# Altium footprint library aiskylab-05Transistors.PcbLib: 5 footprints
Each footprint in its own frame and in the unit in brackets; x right, y up, seen from the top. Pads: shape width x height; smd on the part's side, far side on the other; paste and mask are expansions set on the pad; w line width, h text height; cw(c..) or ccw(c..) is an arc to the next point about the centre after c.
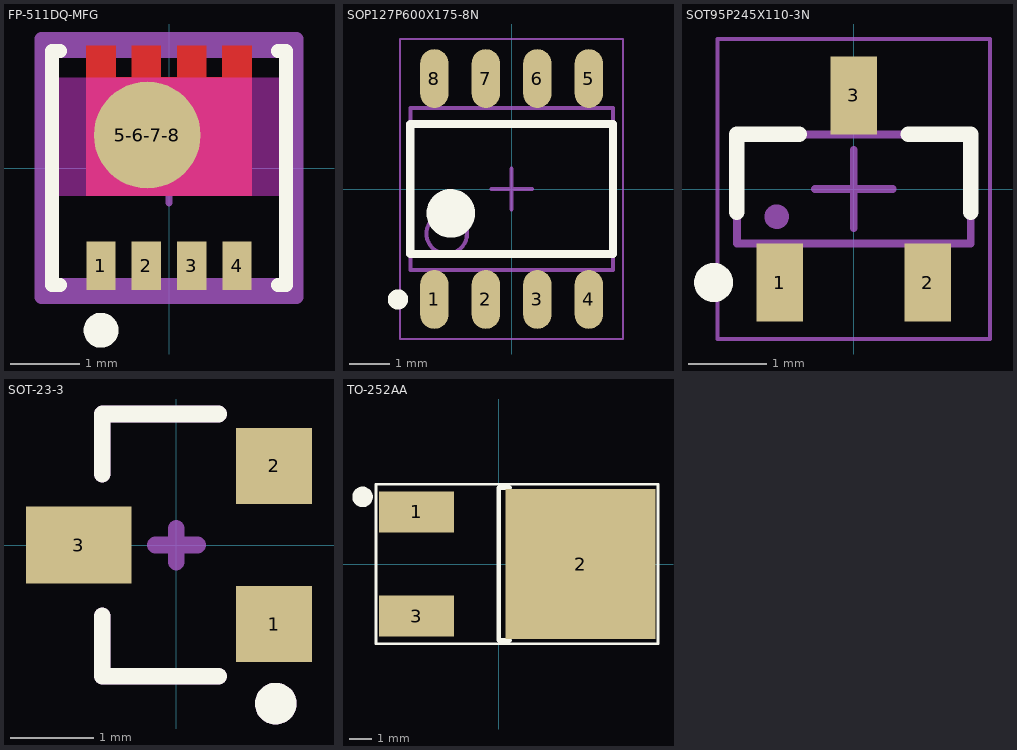
[diagram p0: the footprints below, top view; thin cyan lines are the x and y axes]

## FP-511DQ-MFG [mm]
pads (5):
  rect 0.42x0.7 smd paste+0 mask+0: 1(-0.975,-1.4) 2(-0.325,-1.4) 3(0.325,-1.4) 4(0.975,-1.4)
  round 1.529 smd paste+0 mask+0: 5-6-7-8(-0.312,0.473)
Top Layer:
  region: -1.185,1.75 -0.765,1.75 -0.765,1.3 -0.535,1.3 -0.535,1.75 -0.115,1.75 -0.115,1.3 0.115,1.3 0.115,1.75 0.535,1.75 0.535,1.3 0.765,1.3 0.765,1.75 1.185,1.75 1.185,-0.4 -1.185,-0.4
Top Overlay:
  circle w0.25: c-0.975,-2.325 r0.125
  lines w0.2: -1.56,-1.675 -1.675,-1.675 -1.675,1.675 -1.56,1.675 ; 1.56,-1.675 1.675,-1.675 1.675,1.675 1.56,1.675
Keep-Out Layer:
  rectangle: -1.7,-0.4 1.7,1.3
Top Designator:
  text ".Designator" at -7.618,-0.82 h1.52
Top Assembly:
  lines w0.2: -1.825,-1.85 -1.825,1.85 1.825,1.85 1.825,-1.85 -1.825,-1.85
Top Component Center:
  lines w0.1: -0.5,0 0.5,0 ; 0,-0.5 0,0.5
Top Component Outline:
  lines w0.2: -1.825,-1.85 -1.825,1.85 1.825,1.85 1.825,-1.85 -1.825,-1.85 ; -1.675,-1.675 -1.675,1.675 1.675,1.675 1.675,-1.675 -1.675,-1.675
3D body "Trans_ON_Semiconductor_FDMC4435BZ_eec.STEP": height 0.8, standoff 0, extent -1.66,-1.66 1.66,1.66

## SOP127P600X175-8N [mm] "SOP, 8-Leads, Body 4.90x3.90mm, Pitch 1.27mm, IPC Medium Density"
height 1.75
pads (8):
  oval 0.7x1.45 smd: 1(-1.905,-2.725) 2(-0.635,-2.725) 3(0.635,-2.725) 4(1.905,-2.725) 5(1.905,2.725) 6(0.635,2.725) 7(-0.635,2.725) 8(-1.905,2.725)
Top Overlay:
  circle w0.6: c-1.5,-0.6 r0.3
  circle w0.25: c-2.805,-2.725 r0.125
  lines w0.2: -2.5,-1.6 -2.5,1.6 2.5,1.6 2.5,-1.6 -2.5,-1.6
Top Designator:
  text ".Designator" at -7.758,-0.508 h1.52
Top Assembly:
  circle w0.1: c-1.6,-1.1 r0.5
  lines w0.1: -2.5,-2 -2.5,2 2.5,2 2.5,-2 -2.5,-2
Top Component Center:
  lines w0.1: -0.5,0 0.5,0 ; 0,-0.5 0,0.5
Top Component Outline:
  lines w0.05: -2.75,-3.7 -2.75,3.7 2.75,3.7 2.75,-3.7 -2.75,-3.7
3D body "SOP127P600X175-8N.step": height 1.75, standoff 0, extent -2.5,-2.9 2.5,2.9

## SOT95P245X110-3N [mm] "SOT23, 3-Leads, Body 2.90x2.45mm, Pitch 0.95mm, IPC Medium Density"
height 1.1
pads (3):
  rect 0.6x1 smd: 1(-0.95,-1.2) 2(0.95,-1.2) 3(0,1.2)
Top Overlay:
  circle w0.25: c-1.8,-1.2 r0.125
  lines w0.2: -1.5,-0.3 -1.5,0.7 -0.7,0.7 ; 0.7,0.7 1.5,0.7 1.5,-0.3
Top Designator:
  text ".Designator" at -7.755,-0.508 h1.52
Top Assembly:
  circle w0.2: c-0.991,-0.356 r0.057
  lines w0.1: -1.5,-0.7 -1.5,0.7 1.5,0.7 1.5,-0.7 -1.5,-0.7
Top Component Center:
  lines w0.1: -0.5,0 0.5,0 ; 0,-0.5 0,0.5
Top Component Outline:
  lines w0.05: -1.75,-1.925 -1.75,1.925 1.75,1.925 1.75,-1.925 -1.75,-1.925
3D body "SOT95P245X110-3N.step": height 1.1, standoff 0, extent -1.5,-1.3 1.5,1.3

## SOT-23-3 [mm]
height 1
pads (3):
  rect 0.914x0.914 smd mask+0.07: 1(1.175,-0.95) 2(1.175,0.95)
  rect 1.27x0.924 smd: 3(-1.175,0)
Top Overlay:
  circle w0.25: c1.194,-1.905 r0.125
  lines w0.2: -0.889,-0.85 -0.889,-1.575 0.508,-1.575 ; -0.889,0.85 -0.889,1.575 0.508,1.575
Top Assembly:
  circle w0.25: c1.194,-1.905 r0.125
  lines w0.2: -0.889,-0.85 -0.889,-1.575 0.508,-1.575 ; -0.889,0.85 -0.889,1.575 0.508,1.575
Top Component Center:
  lines w0.2: -0.254,0 0.254,0 ; 0,-0.203 0,0.203
Top Component Outline:
  circle w0.25: c1.194,-1.905 r0.125
  lines w0.2: -0.889,-0.85 -0.889,-1.575 0.508,-1.575 ; -0.889,0.85 -0.889,1.575 0.508,1.575
3D body "sot23-3.stp": height 1.1, standoff 0.01, extent -1.499,-1.55 1.502,1.55
3D body "0_7-1-sot-23.stp": height 0.02, standoff 0, extent -1.67,-0.344 -0.67,0.356
3D body "0_7-1-sot-23.stp": height 0.02, standoff 0, extent 0.68,0.606 1.68,1.306
3D body "0_7-1-sot-23.stp": height 0.02, standoff 0, extent 0.68,-1.294 1.68,-0.595

## TO-252AA [mil]
pads (3):
  rect 130x70.87 smd: 1(-141.73,90) 3(-141.73,-90)
  rect 259.84x259.84 smd: 2(141.73,0)
Top Overlay:
  circle w19.68: c-235,116 r7.87
  lines w5: -211.73,-137.8 275.59,-137.8 275.59,137.8 -211.73,137.8 -211.73,-137.8
  lines w7.87: 19.69,-131.89 0,-131.89 0,131.89 19.69,131.89
3D body "DPAK228P970X238-3N.step": height 93.7, standoff 0, extent -156.55,-134.89 225.34,128.89